# Altium integrated library con-pc.IntLib: 16 symbols
Pins are listed as number, name and electrical type; pins without a type are passive.

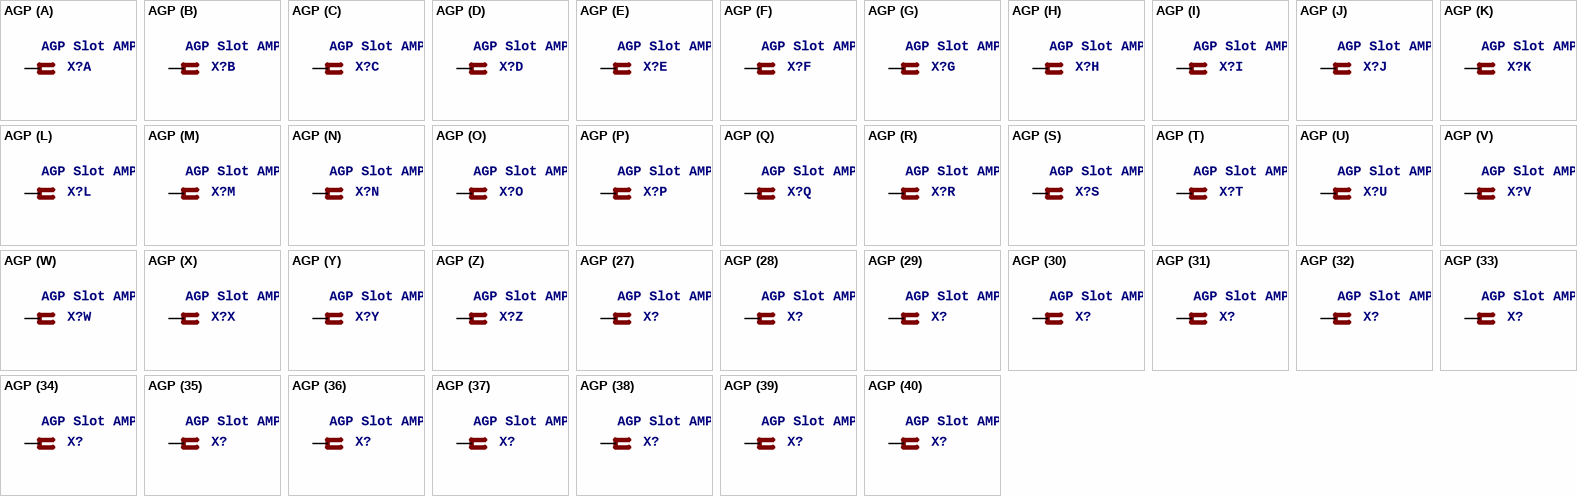
[diagram p0: symbol AGP]

## AGP
designator X?, comment AGP Slot AMP connctor 145263 >PCT-GF40<   124 Position 1mm, card edge connector Drawing No: C-145263 Source: http://ecommas.tycoelectronics.com .. ENG_CD_145263_H.pdf
footprint AGP
part A pins: 1 P
part B pins: 2 P
part C pins: 3 P
part D pins: 4 P
part E pins: 5 P
part F pins: 6 P
part G pins: 7 P
part H pins: 8 P
part I pins: 9 P
part J pins: 10 P
part K pins: 11 P
part L pins: 12 P
part M pins: 13 P
part N pins: 14 P
part O pins: 15 P
part P pins: 16 P
part Q pins: 17 P
part R pins: 18 P
part S pins: 19 P
part T pins: 20 P
part U pins: 21 P
part V pins: 22 P
part W pins: 23 P
part X pins: 24 P
part Y pins: 25 P
part Z pins: 26 P
part 27 pins: 27 P
part 28 pins: 28 P
part 29 pins: 29 P
part 30 pins: 30 P
part 31 pins: 31 P
part 32 pins: 32 P
part 33 pins: 33 P
part 34 pins: 34 P
part 35 pins: 35 P
part 36 pins: 36 P
part 37 pins: 37 P
part 38 pins: 38 P
part 39 pins: 39 P
part 40 pins: 40 P
part 41 pins: 41 P
part 42 pins: 42 P
part 43 pins: 43 P
part 44 pins: 44 P
part 45 pins: 45 P
part 46 pins: 46 P
part 47 pins: 47 P
part 48 pins: 48 P
part 49 pins: 49 P
part 50 pins: 50 P
part 51 pins: 51 P
part 52 pins: 52 P
part 53 pins: 53 P
part 54 pins: 54 P
part 55 pins: 55 P
part 56 pins: 56 P
part 57 pins: 57 P
part 58 pins: 58 P
part 59 pins: 59 P
part 60 pins: 60 P
part 61 pins: 61 P
part 62 pins: 62 P
part 63 pins: 63 P
part 64 pins: 64 P
part 65 pins: 65 P
part 66 pins: 66 P
part 67 pins: 67 P
part 68 pins: 68 P
part 69 pins: 69 P
part 70 pins: 70 P
part 71 pins: 71 P
part 72 pins: 72 P
part 73 pins: 73 P
part 74 pins: 74 P
part 75 pins: 75 P
part 76 pins: 76 P
part 77 pins: 77 P
part 78 pins: 78 P
part 79 pins: 79 P
part 80 pins: 80 P
part 81 pins: 81 P
part 82 pins: 82 P
part 83 pins: 83 P
part 84 pins: 84 P
part 85 pins: 85 P
part 86 pins: 86 P
part 87 pins: 87 P
part 88 pins: 88 P
part 89 pins: 89 P
part 90 pins: 90 P
part 91 pins: 91 P
part 92 pins: 92 P
part 93 pins: 93 P
part 94 pins: 94 P
part 95 pins: 95 P
part 96 pins: 96 P
part 97 pins: 97 P
part 98 pins: 98 P
part 99 pins: 99 P
part 100 pins: 100 P
part 101 pins: 101 P
part 102 pins: 102 P
part 103 pins: 103 P
part 104 pins: 104 P
part 105 pins: 105 P
part 106 pins: 106 P
part 107 pins: 107 P
part 108 pins: 108 P
part 109 pins: 109 P
part 110 pins: 110 P
part 111 pins: 111 P
part 112 pins: 112 P
part 113 pins: 113 P
part 114 pins: 114 P
part 115 pins: 115 P
part 116 pins: 116 P
part 117 pins: 117 P
part 118 pins: 118 P
part 119 pins: 119 P
part 120 pins: 120 P
part 121 pins: 121 P
part 122 pins: 122 P
part 123 pins: 123 P
part 124 pins: 124 P

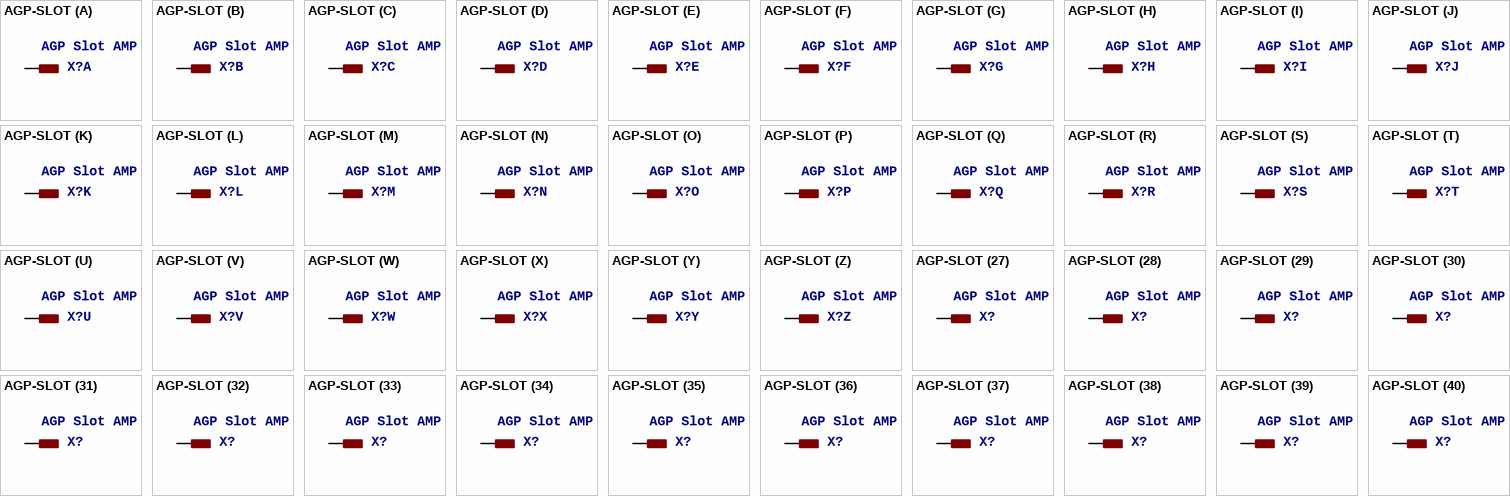
[diagram p1: symbol AGP-SLOT]

## AGP-SLOT
designator X?, comment AGP Slot AMP connctor 145263 >PCT-GF40<   124 Position 1mm, card edge connector Drawing No: C-145263 Source: http://ecommas.tycoelectronics.com .. ENG_CD_145263_H.pdf
footprint AGP-SLOT
part A pins: 1 P
part B pins: 2 P
part C pins: 3 P
part D pins: 4 P
part E pins: 5 P
part F pins: 6 P
part G pins: 7 P
part H pins: 8 P
part I pins: 9 P
part J pins: 10 P
part K pins: 11 P
part L pins: 12 P
part M pins: 13 P
part N pins: 14 P
part O pins: 15 P
part P pins: 16 P
part Q pins: 17 P
part R pins: 18 P
part S pins: 19 P
part T pins: 20 P
part U pins: 21 P
part V pins: 22 P
part W pins: 23 P
part X pins: 24 P
part Y pins: 25 P
part Z pins: 26 P
part 27 pins: 27 P
part 28 pins: 28 P
part 29 pins: 29 P
part 30 pins: 30 P
part 31 pins: 31 P
part 32 pins: 32 P
part 33 pins: 33 P
part 34 pins: 34 P
part 35 pins: 35 P
part 36 pins: 36 P
part 37 pins: 37 P
part 38 pins: 38 P
part 39 pins: 39 P
part 40 pins: 40 P
part 41 pins: 41 P
part 42 pins: 42 P
part 43 pins: 43 P
part 44 pins: 44 P
part 45 pins: 45 P
part 46 pins: 46 P
part 47 pins: 47 P
part 48 pins: 48 P
part 49 pins: 49 P
part 50 pins: 50 P
part 51 pins: 51 P
part 52 pins: 52 P
part 53 pins: 53 P
part 54 pins: 54 P
part 55 pins: 55 P
part 56 pins: 56 P
part 57 pins: 57 P
part 58 pins: 58 P
part 59 pins: 59 P
part 60 pins: 60 P
part 61 pins: 61 P
part 62 pins: 62 P
part 63 pins: 63 P
part 64 pins: 64 P
part 65 pins: 65 P
part 66 pins: 66 P
part 67 pins: 67 P
part 68 pins: 68 P
part 69 pins: 69 P
part 70 pins: 70 P
part 71 pins: 71 P
part 72 pins: 72 P
part 73 pins: 73 P
part 74 pins: 74 P
part 75 pins: 75 P
part 76 pins: 76 P
part 77 pins: 77 P
part 78 pins: 78 P
part 79 pins: 79 P
part 80 pins: 80 P
part 81 pins: 81 P
part 82 pins: 82 P
part 83 pins: 83 P
part 84 pins: 84 P
part 85 pins: 85 P
part 86 pins: 86 P
part 87 pins: 87 P
part 88 pins: 88 P
part 89 pins: 89 P
part 90 pins: 90 P
part 91 pins: 91 P
part 92 pins: 92 P
part 93 pins: 93 P
part 94 pins: 94 P
part 95 pins: 95 P
part 96 pins: 96 P
part 97 pins: 97 P
part 98 pins: 98 P
part 99 pins: 99 P
part 100 pins: 100 P
part 101 pins: 101 P
part 102 pins: 102 P
part 103 pins: 103 P
part 104 pins: 104 P
part 105 pins: 105 P
part 106 pins: 106 P
part 107 pins: 107 P
part 108 pins: 108 P
part 109 pins: 109 P
part 110 pins: 110 P
part 111 pins: 111 P
part 112 pins: 112 P
part 113 pins: 113 P
part 114 pins: 114 P
part 115 pins: 115 P
part 116 pins: 116 P
part 117 pins: 117 P
part 118 pins: 118 P
part 119 pins: 119 P
part 120 pins: 120 P
part 121 pins: 121 P
part 122 pins: 122 P
part 123 pins: 123 P
part 124 pins: 124 P

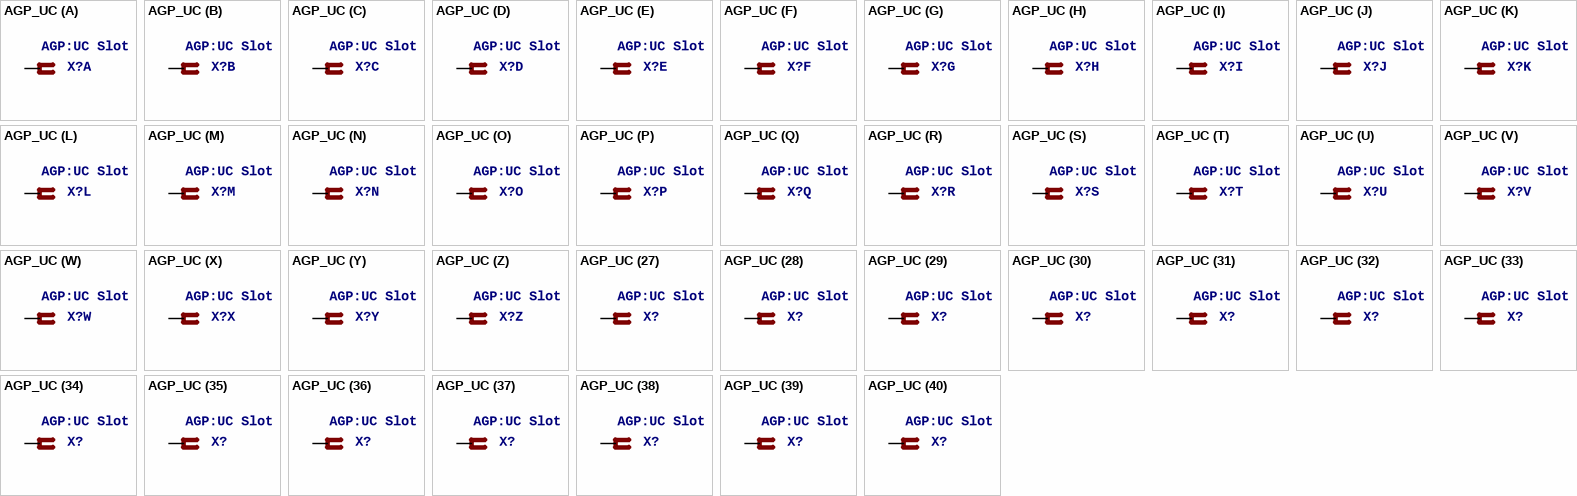
[diagram p2: symbol AGP_UC]

## AGP_UC
designator X?, comment AGP:UC Slot AMP connctor 145376 >PCT-GF40<    132 Position 1mm, card edge connector Drawing No: C-145263 Source: http://ecommas.tycoelectronics.com .. ENG_CD_145376_D.pdf
footprint AGP_UC
part A pins: 1 P
part B pins: 2 P
part C pins: 3 P
part D pins: 4 P
part E pins: 5 P
part F pins: 6 P
part G pins: 7 P
part H pins: 8 P
part I pins: 9 P
part J pins: 10 P
part K pins: 11 P
part L pins: 12 P
part M pins: 13 P
part N pins: 14 P
part O pins: 15 P
part P pins: 16 P
part Q pins: 17 P
part R pins: 18 P
part S pins: 19 P
part T pins: 20 P
part U pins: 21 P
part V pins: 22 P
part W pins: 23 P
part X pins: 24 P
part Y pins: 25 P
part Z pins: 26 P
part 27 pins: 27 P
part 28 pins: 28 P
part 29 pins: 29 P
part 30 pins: 30 P
part 31 pins: 31 P
part 32 pins: 32 P
part 33 pins: 33 P
part 34 pins: 34 P
part 35 pins: 35 P
part 36 pins: 36 P
part 37 pins: 37 P
part 38 pins: 38 P
part 39 pins: 39 P
part 40 pins: 40 P
part 41 pins: 41 P
part 42 pins: 42 P
part 43 pins: 43 P
part 44 pins: 44 P
part 45 pins: 45 P
part 46 pins: 46 P
part 47 pins: 47 P
part 48 pins: 48 P
part 49 pins: 49 P
part 50 pins: 50 P
part 51 pins: 51 P
part 52 pins: 52 P
part 53 pins: 53 P
part 54 pins: 54 P
part 55 pins: 55 P
part 56 pins: 56 P
part 57 pins: 57 P
part 58 pins: 58 P
part 59 pins: 59 P
part 60 pins: 60 P
part 61 pins: 61 P
part 62 pins: 62 P
part 63 pins: 63 P
part 64 pins: 64 P
part 65 pins: 65 P
part 66 pins: 66 P
part 67 pins: 67 P
part 68 pins: 68 P
part 69 pins: 69 P
part 70 pins: 70 P
part 71 pins: 71 P
part 72 pins: 72 P
part 73 pins: 73 P
part 74 pins: 74 P
part 75 pins: 75 P
part 76 pins: 76 P
part 77 pins: 77 P
part 78 pins: 78 P
part 79 pins: 79 P
part 80 pins: 80 P
part 81 pins: 81 P
part 82 pins: 82 P
part 83 pins: 83 P
part 84 pins: 84 P
part 85 pins: 85 P
part 86 pins: 86 P
part 87 pins: 87 P
part 88 pins: 88 P
part 89 pins: 89 P
part 90 pins: 90 P
part 91 pins: 91 P
part 92 pins: 92 P
part 93 pins: 93 P
part 94 pins: 94 P
part 95 pins: 95 P
part 96 pins: 96 P
part 97 pins: 97 P
part 98 pins: 98 P
part 99 pins: 99 P
part 100 pins: 100 P
part 101 pins: 101 P
part 102 pins: 102 P
part 103 pins: 103 P
part 104 pins: 104 P
part 105 pins: 105 P
part 106 pins: 106 P
part 107 pins: 107 P
part 108 pins: 108 P
part 109 pins: 109 P
part 110 pins: 110 P
part 111 pins: 111 P
part 112 pins: 112 P
part 113 pins: 113 P
part 114 pins: 114 P
part 115 pins: 115 P
part 116 pins: 116 P
part 117 pins: 117 P
part 118 pins: 118 P
part 119 pins: 119 P
part 120 pins: 120 P
part 121 pins: 121 P
part 122 pins: 122 P
part 123 pins: 123 P
part 124 pins: 124 P
part 125 pins: 125 P
part 126 pins: 126 P
part 127 pins: 127 P
part 128 pins: 128 P
part 129 pins: 129 P
part 130 pins: 130 P
part 131 pins: 131 P
part 132 pins: 132 P

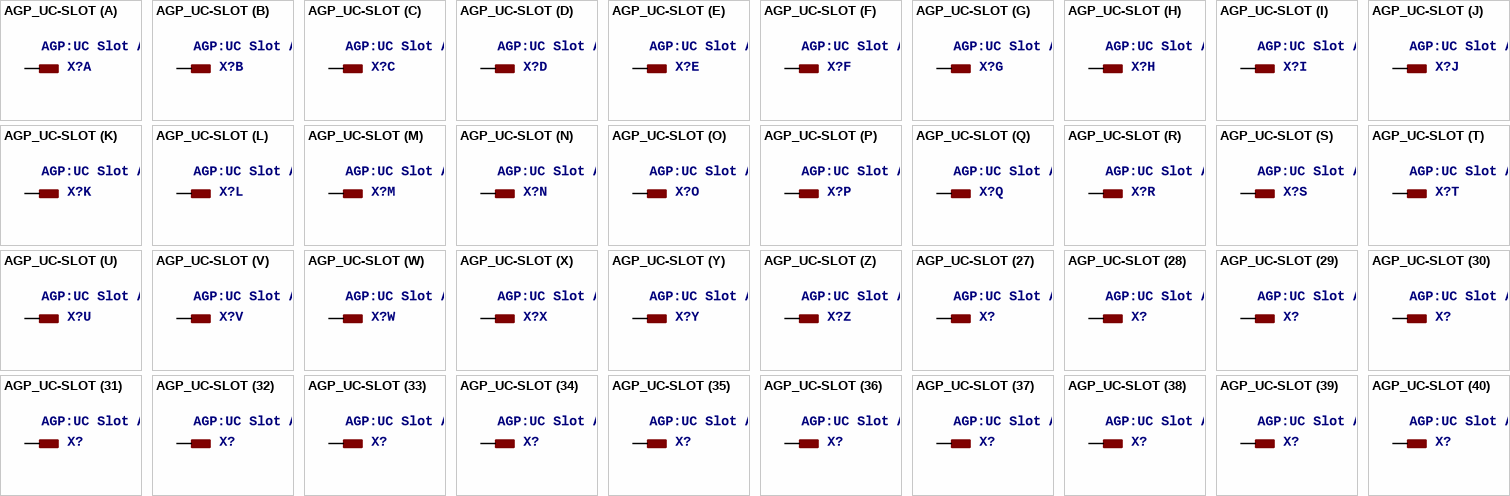
[diagram p3: symbol AGP_UC-SLOT]

## AGP_UC-SLOT
designator X?, comment AGP:UC Slot AMP connctor 145376 >PCT-GF40<    132 Position 1mm, card edge connector Drawing No: C-145263 Source: http://ecommas.tycoelectronics.com .. ENG_CD_145376_D.pdf
footprint AGP_UC-SLOT
part A pins: 1 P
part B pins: 2 P
part C pins: 3 P
part D pins: 4 P
part E pins: 5 P
part F pins: 6 P
part G pins: 7 P
part H pins: 8 P
part I pins: 9 P
part J pins: 10 P
part K pins: 11 P
part L pins: 12 P
part M pins: 13 P
part N pins: 14 P
part O pins: 15 P
part P pins: 16 P
part Q pins: 17 P
part R pins: 18 P
part S pins: 19 P
part T pins: 20 P
part U pins: 21 P
part V pins: 22 P
part W pins: 23 P
part X pins: 24 P
part Y pins: 25 P
part Z pins: 26 P
part 27 pins: 27 P
part 28 pins: 28 P
part 29 pins: 29 P
part 30 pins: 30 P
part 31 pins: 31 P
part 32 pins: 32 P
part 33 pins: 33 P
part 34 pins: 34 P
part 35 pins: 35 P
part 36 pins: 36 P
part 37 pins: 37 P
part 38 pins: 38 P
part 39 pins: 39 P
part 40 pins: 40 P
part 41 pins: 41 P
part 42 pins: 42 P
part 43 pins: 43 P
part 44 pins: 44 P
part 45 pins: 45 P
part 46 pins: 46 P
part 47 pins: 47 P
part 48 pins: 48 P
part 49 pins: 49 P
part 50 pins: 50 P
part 51 pins: 51 P
part 52 pins: 52 P
part 53 pins: 53 P
part 54 pins: 54 P
part 55 pins: 55 P
part 56 pins: 56 P
part 57 pins: 57 P
part 58 pins: 58 P
part 59 pins: 59 P
part 60 pins: 60 P
part 61 pins: 61 P
part 62 pins: 62 P
part 63 pins: 63 P
part 64 pins: 64 P
part 65 pins: 65 P
part 66 pins: 66 P
part 67 pins: 67 P
part 68 pins: 68 P
part 69 pins: 69 P
part 70 pins: 70 P
part 71 pins: 71 P
part 72 pins: 72 P
part 73 pins: 73 P
part 74 pins: 74 P
part 75 pins: 75 P
part 76 pins: 76 P
part 77 pins: 77 P
part 78 pins: 78 P
part 79 pins: 79 P
part 80 pins: 80 P
part 81 pins: 81 P
part 82 pins: 82 P
part 83 pins: 83 P
part 84 pins: 84 P
part 85 pins: 85 P
part 86 pins: 86 P
part 87 pins: 87 P
part 88 pins: 88 P
part 89 pins: 89 P
part 90 pins: 90 P
part 91 pins: 91 P
part 92 pins: 92 P
part 93 pins: 93 P
part 94 pins: 94 P
part 95 pins: 95 P
part 96 pins: 96 P
part 97 pins: 97 P
part 98 pins: 98 P
part 99 pins: 99 P
part 100 pins: 100 P
part 101 pins: 101 P
part 102 pins: 102 P
part 103 pins: 103 P
part 104 pins: 104 P
part 105 pins: 105 P
part 106 pins: 106 P
part 107 pins: 107 P
part 108 pins: 108 P
part 109 pins: 109 P
part 110 pins: 110 P
part 111 pins: 111 P
part 112 pins: 112 P
part 113 pins: 113 P
part 114 pins: 114 P
part 115 pins: 115 P
part 116 pins: 116 P
part 117 pins: 117 P
part 118 pins: 118 P
part 119 pins: 119 P
part 120 pins: 120 P
part 121 pins: 121 P
part 122 pins: 122 P
part 123 pins: 123 P
part 124 pins: 124 P
part 125 pins: 125 P
part 126 pins: 126 P
part 127 pins: 127 P
part 128 pins: 128 P
part 129 pins: 129 P
part 130 pins: 130 P
part 131 pins: 131 P
part 132 pins: 132 P

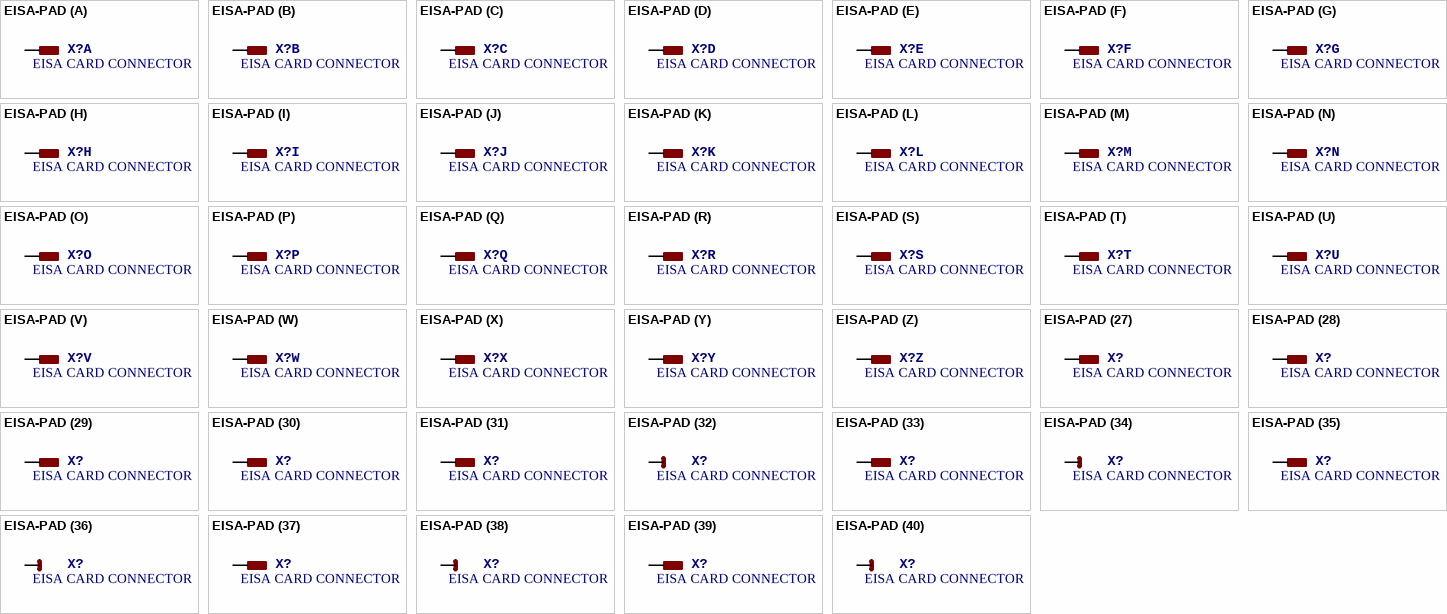
[diagram p4: symbol EISA-PAD]

## EISA-PAD
designator X?, comment EISA CARD CONNECTOR
footprint EISA-BRD
part A pins: A1 P
part B pins: A2 P
part C pins: A3 P
part D pins: A4 P
part E pins: A5 P
part F pins: A6 P
part G pins: A7 P
part H pins: A8 P
part I pins: A9 P
part J pins: A10 P
part K pins: A11 P
part L pins: A12 P
part M pins: A13 P
part N pins: A14 P
part O pins: A15 P
part P pins: A16 P
part Q pins: A17 P
part R pins: A18 P
part S pins: A19 P
part T pins: A20 P
part U pins: A21 P
part V pins: A22 P
part W pins: A23 P
part X pins: A24 P
part Y pins: A25 P
part Z pins: A26 P
part 27 pins: A27 P
part 28 pins: A28 P
part 29 pins: A29 P
part 30 pins: A30 P
part 31 pins: A31 P
part 32 pins: B1 GND (power)
part 33 pins: B2 P
part 34 pins: B3 +5V (power)
part 35 pins: B4 P
part 36 pins: B5 -5V (power)
part 37 pins: B6 P
part 38 pins: B7 -12V (power)
part 39 pins: B8 P
part 40 pins: B9 +12V (power)
part 41 pins: B10 GND (power)
part 42 pins: B11 P
part 43 pins: B12 P
part 44 pins: B13 P
part 45 pins: B14 P
part 46 pins: B15 P
part 47 pins: B16 P
part 48 pins: B17 P
part 49 pins: B18 P
part 50 pins: B19 P
part 51 pins: B20 P
part 52 pins: B21 P
part 53 pins: B22 P
part 54 pins: B23 P
part 55 pins: B24 P
part 56 pins: B25 P
part 57 pins: B26 P
part 58 pins: B27 P
part 59 pins: B28 P
part 60 pins: B29 +5V (power)
part 61 pins: B30 P
part 62 pins: B31 GND (power)
part 63 pins: E1 P
part 64 pins: E2 P
part 65 pins: E3 P
part 66 pins: E4 P
part 67 pins: E5 GND (power)
part 68 pins: E7 P
part 69 pins: E8 P
part 70 pins: E9 P
part 71 pins: E10 P
part 72 pins: E11 GND (power)
part 73 pins: E12 RSV
part 74 pins: E13 RSV
part 75 pins: E14 RSV
part 76 pins: E15 GND (power)
part 77 pins: E17 P
part 78 pins: E18 P
part 79 pins: E19 GND (power)
part 80 pins: E20 P
part 81 pins: E21 P
part 82 pins: E22 P
part 83 pins: E23 P
part 84 pins: E24 GND (power)
part 85 pins: E26 P
part 86 pins: E27 P
part 87 pins: E28 P
part 88 pins: E29 P
part 89 pins: E30 GND (power)
part 90 pins: E31 P
part 91 pins: F1 GND (power)
part 92 pins: F2 +5V (power)
part 93 pins: F3 +5V (power)
part 94 pins: F4 RSV
part 95 pins: F5 RSV
part 96 pins: F7 RSV
part 97 pins: F8 RSV
part 98 pins: F9 +12V (power)
part 99 pins: F10 P
part 100 pins: F11 P
part 101 pins: F12 RSV
part 102 pins: F13 GND (power)
part 103 pins: F14 RSV
part 104 pins: F15 P
part 105 pins: F17 P
part 106 pins: F18 P
part 107 pins: F19 GND (power)
part 108 pins: F20 +5V (power)
part 109 pins: F21 P
part 110 pins: F22 GND (power)
part 111 pins: F23 P
part 112 pins: F24 P
part 113 pins: F26 P
part 114 pins: F27 P
part 115 pins: F28 +5V (power)
part 116 pins: F29 +5V (power)
part 117 pins: F30 GND (power)
part 118 pins: F31 P
part 119 pins: C1 P
part 120 pins: C2 P
part 121 pins: C3 P
part 122 pins: C4 P
part 123 pins: C5 P
part 124 pins: C6 P
part 125 pins: C7 P
part 126 pins: C8 P
part 127 pins: C9 P
part 128 pins: C10 P
part 129 pins: C11 P
part 130 pins: C12 P
part 131 pins: C13 P
part 132 pins: C14 P
part 133 pins: C15 P
part 134 pins: C16 P
part 135 pins: C17 P
part 136 pins: C18 P
part 137 pins: D1 P
part 138 pins: D2 P
part 139 pins: D3 P
part 140 pins: D4 P
part 141 pins: D5 P
part 142 pins: D6 P
part 143 pins: D7 P
part 144 pins: D8 P
part 145 pins: D9 P
part 146 pins: D10 P
part 147 pins: D11 P
part 148 pins: D12 P
part 149 pins: D13 P
part 150 pins: D14 P
part 151 pins: D15 P
part 152 pins: D16 +5V (power)
part 153 pins: D17 P
part 154 pins: D18 GND (power)
part 155 pins: G1 P
part 156 pins: G2 GND (power)
part 157 pins: G3 P
part 158 pins: G4 P
part 159 pins: G5 GND (power)
part 160 pins: G7 P
part 161 pins: G8 P
part 162 pins: G9 P
part 163 pins: G10 P
part 164 pins: G11 GND (power)
part 165 pins: G12 P
part 166 pins: G13 P
part 167 pins: G14 P
part 168 pins: G16 GND (power)
part 169 pins: G17 P
part 170 pins: G18 P
part 171 pins: G19 P
part 172 pins: H1 P
part 173 pins: H2 P
part 174 pins: H3 P
part 175 pins: H4 +5V (power)
part 176 pins: H5 P
part 177 pins: H7 P
part 178 pins: H8 P
part 179 pins: H9 GND (power)
part 180 pins: H10 P
part 181 pins: H11 P
part 182 pins: H12 P
part 183 pins: H13 GND (power)
part 184 pins: H14 P
part 185 pins: H16 P
part 186 pins: H17 +5V (power)
part 187 pins: H18 +5V (power)
part 188 pins: H19 P

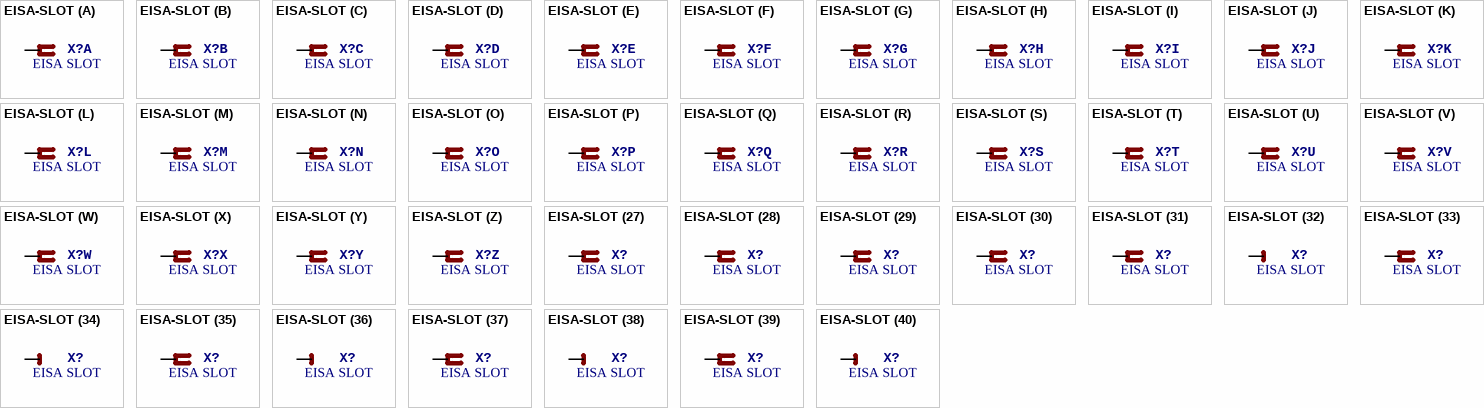
[diagram p5: symbol EISA-SLOT]

## EISA-SLOT
designator X?, comment EISA SLOT
footprint EISA-188
part A pins: A1 P
part B pins: A2 P
part C pins: A3 P
part D pins: A4 P
part E pins: A5 P
part F pins: A6 P
part G pins: A7 P
part H pins: A8 P
part I pins: A9 P
part J pins: A10 P
part K pins: A11 P
part L pins: A12 P
part M pins: A13 P
part N pins: A14 P
part O pins: A15 P
part P pins: A16 P
part Q pins: A17 P
part R pins: A18 P
part S pins: A19 P
part T pins: A20 P
part U pins: A21 P
part V pins: A22 P
part W pins: A23 P
part X pins: A24 P
part Y pins: A25 P
part Z pins: A26 P
part 27 pins: A27 P
part 28 pins: A28 P
part 29 pins: A29 P
part 30 pins: A30 P
part 31 pins: A31 P
part 32 pins: B1 GND (power)
part 33 pins: B2 P
part 34 pins: B3 +5V (power)
part 35 pins: B4 P
part 36 pins: B5 -5V (power)
part 37 pins: B6 P
part 38 pins: B7 -12V (power)
part 39 pins: B8 P
part 40 pins: B9 +12V (power)
part 41 pins: B10 GND (power)
part 42 pins: B11 P
part 43 pins: B12 P
part 44 pins: B13 P
part 45 pins: B14 P
part 46 pins: B15 P
part 47 pins: B16 P
part 48 pins: B17 P
part 49 pins: B18 P
part 50 pins: B19 P
part 51 pins: B20 P
part 52 pins: B21 P
part 53 pins: B22 P
part 54 pins: B23 P
part 55 pins: B24 P
part 56 pins: B25 P
part 57 pins: B26 P
part 58 pins: B27 P
part 59 pins: B28 P
part 60 pins: B29 +5V (power)
part 61 pins: B30 P
part 62 pins: B31 GND (power)
part 63 pins: E1 P
part 64 pins: E2 P
part 65 pins: E3 P
part 66 pins: E4 P
part 67 pins: E5 GND (power)
part 68 pins: E7 P
part 69 pins: E8 P
part 70 pins: E9 P
part 71 pins: E10 P
part 72 pins: E11 GND (power)
part 73 pins: E12 RSV
part 74 pins: E13 RSV
part 75 pins: E14 RSV
part 76 pins: E15 GND (power)
part 77 pins: E17 P
part 78 pins: E18 P
part 79 pins: E19 GND (power)
part 80 pins: E20 P
part 81 pins: E21 P
part 82 pins: E22 P
part 83 pins: E23 P
part 84 pins: E24 GND (power)
part 85 pins: E26 P
part 86 pins: E27 P
part 87 pins: E28 P
part 88 pins: E29 P
part 89 pins: E30 GND (power)
part 90 pins: E31 P
part 91 pins: F1 GND (power)
part 92 pins: F2 +5V (power)
part 93 pins: F3 +5V (power)
part 94 pins: F4 RSV
part 95 pins: F5 RSV
part 96 pins: F7 RSV
part 97 pins: F8 RSV
part 98 pins: F9 +12V (power)
part 99 pins: F10 P
part 100 pins: F11 P
part 101 pins: F12 RSV
part 102 pins: F13 GND (power)
part 103 pins: F14 RSV
part 104 pins: F15 P
part 105 pins: F17 P
part 106 pins: F18 P
part 107 pins: F19 GND (power)
part 108 pins: F20 +5V (power)
part 109 pins: F21 P
part 110 pins: F22 GND (power)
part 111 pins: F23 P
part 112 pins: F24 P
part 113 pins: F26 P
part 114 pins: F27 P
part 115 pins: F28 +5V (power)
part 116 pins: F29 +5V (power)
part 117 pins: F30 GND (power)
part 118 pins: F31 P
part 119 pins: C1 P
part 120 pins: C2 P
part 121 pins: C3 P
part 122 pins: C4 P
part 123 pins: C5 P
part 124 pins: C6 P
part 125 pins: C7 P
part 126 pins: C8 P
part 127 pins: C9 P
part 128 pins: C10 P
part 129 pins: C11 P
part 130 pins: C12 P
part 131 pins: C13 P
part 132 pins: C14 P
part 133 pins: C15 P
part 134 pins: C16 P
part 135 pins: C17 P
part 136 pins: C18 P
part 137 pins: D1 P
part 138 pins: D2 P
part 139 pins: D3 P
part 140 pins: D4 P
part 141 pins: D5 P
part 142 pins: D6 P
part 143 pins: D7 P
part 144 pins: D8 P
part 145 pins: D9 P
part 146 pins: D10 P
part 147 pins: D11 P
part 148 pins: D12 P
part 149 pins: D13 P
part 150 pins: D14 P
part 151 pins: D15 P
part 152 pins: D16 +5V (power)
part 153 pins: D17 P
part 154 pins: D18 GND (power)
part 155 pins: G1 P
part 156 pins: G2 GND (power)
part 157 pins: G3 P
part 158 pins: G4 P
part 159 pins: G5 GND (power)
part 160 pins: G7 P
part 161 pins: G8 P
part 162 pins: G9 P
part 163 pins: G10 P
part 164 pins: G11 GND (power)
part 165 pins: G12 P
part 166 pins: G13 P
part 167 pins: G14 P
part 168 pins: G16 GND (power)
part 169 pins: G17 P
part 170 pins: G18 P
part 171 pins: G19 P
part 172 pins: H1 P
part 173 pins: H2 P
part 174 pins: H3 P
part 175 pins: H4 +5V (power)
part 176 pins: H5 P
part 177 pins: H7 P
part 178 pins: H8 P
part 179 pins: H9 GND (power)
part 180 pins: H10 P
part 181 pins: H11 P
part 182 pins: H12 P
part 183 pins: H13 GND (power)
part 184 pins: H14 P
part 185 pins: H16 P
part 186 pins: H17 +5V (power)
part 187 pins: H18 +5V (power)
part 188 pins: H19 P

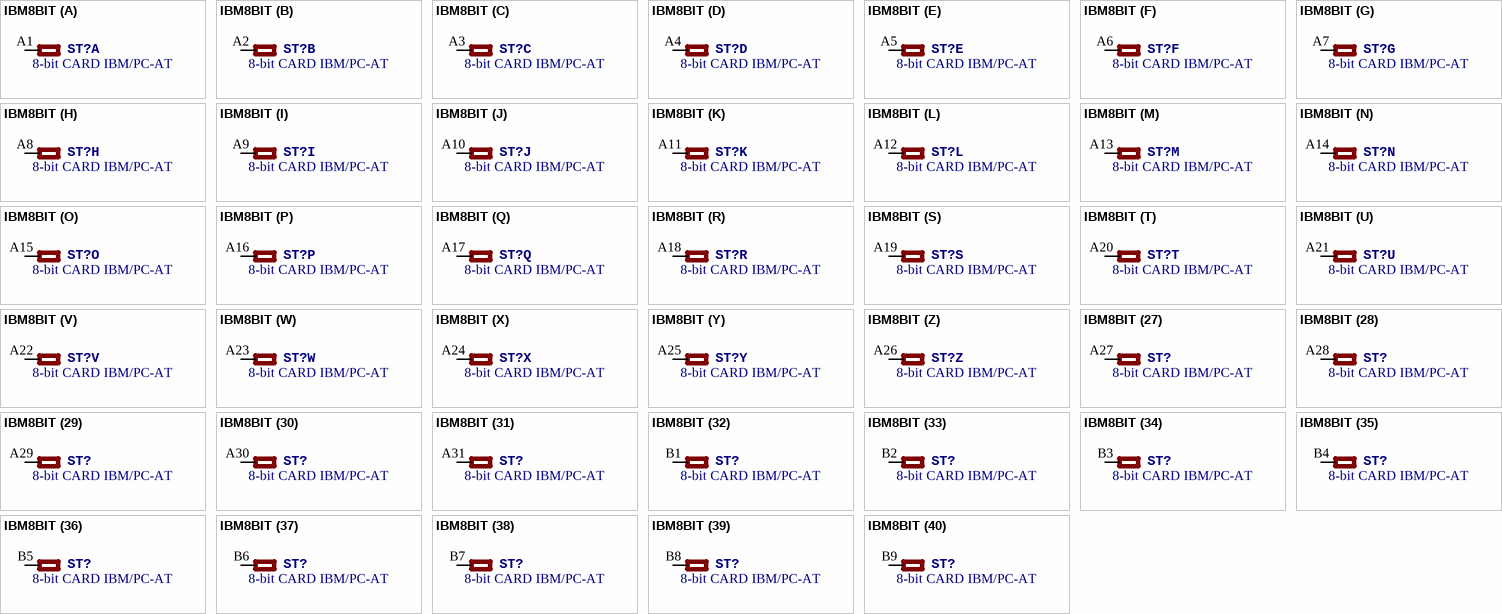
[diagram p6: symbol IBM8BIT]

## IBM8BIT
designator ST?, comment 8-bit CARD IBM/PC-AT
footprint IBM8BIT
part A pins: A1 P
part B pins: A2 P
part C pins: A3 P
part D pins: A4 P
part E pins: A5 P
part F pins: A6 P
part G pins: A7 P
part H pins: A8 P
part I pins: A9 P
part J pins: A10 P
part K pins: A11 P
part L pins: A12 P
part M pins: A13 P
part N pins: A14 P
part O pins: A15 P
part P pins: A16 P
part Q pins: A17 P
part R pins: A18 P
part S pins: A19 P
part T pins: A20 P
part U pins: A21 P
part V pins: A22 P
part W pins: A23 P
part X pins: A24 P
part Y pins: A25 P
part Z pins: A26 P
part 27 pins: A27 P
part 28 pins: A28 P
part 29 pins: A29 P
part 30 pins: A30 P
part 31 pins: A31 P
part 32 pins: B1 P
part 33 pins: B2 P
part 34 pins: B3 P
part 35 pins: B4 P
part 36 pins: B5 P
part 37 pins: B6 P
part 38 pins: B7 P
part 39 pins: B8 P
part 40 pins: B9 P
part 41 pins: B10 P
part 42 pins: B11 P
part 43 pins: B12 P
part 44 pins: B13 P
part 45 pins: B14 P
part 46 pins: B15 P
part 47 pins: B16 P
part 48 pins: B17 P
part 49 pins: B18 P
part 50 pins: B19 P
part 51 pins: B20 P
part 52 pins: B21 P
part 53 pins: B22 P
part 54 pins: B23 P
part 55 pins: B24 P
part 56 pins: B25 P
part 57 pins: B26 P
part 58 pins: B27 P
part 59 pins: B28 P
part 60 pins: B29 P
part 61 pins: B30 P
part 62 pins: B31 P

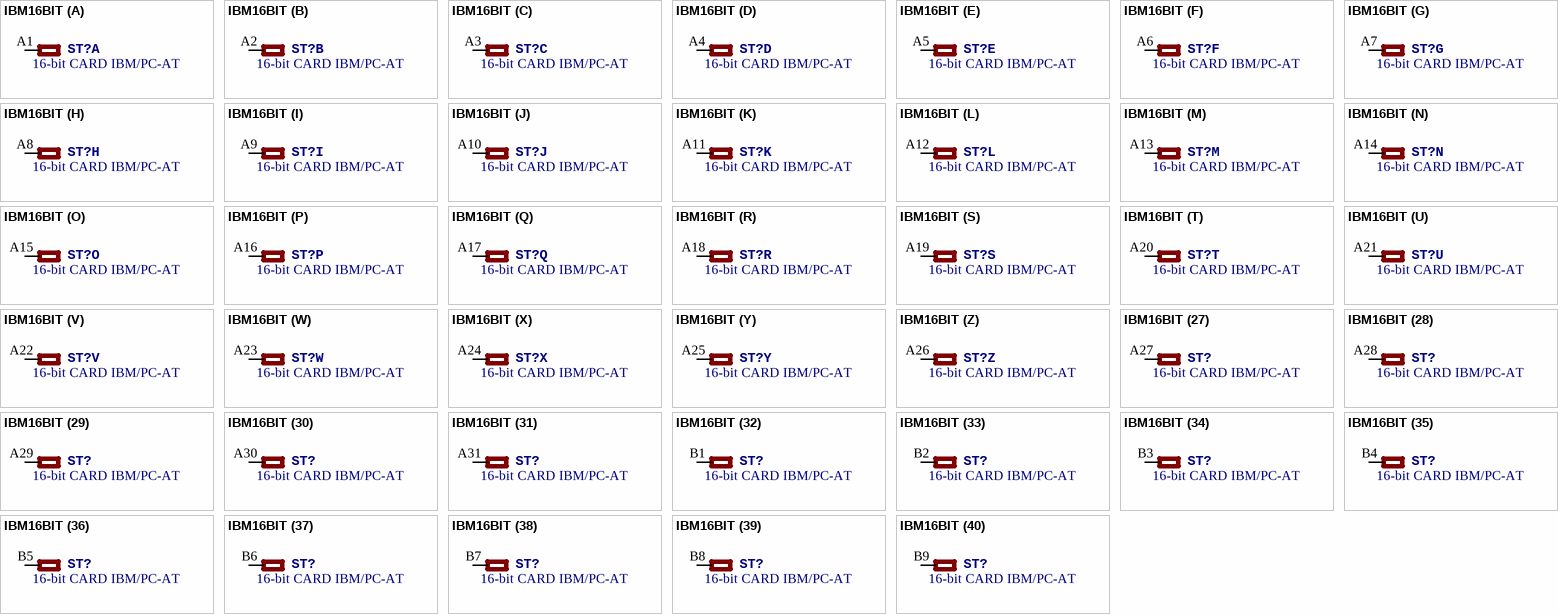
[diagram p7: symbol IBM16BIT]

## IBM16BIT
designator ST?, comment 16-bit CARD IBM/PC-AT
footprint IBM16BIT
part A pins: A1 P
part B pins: A2 P
part C pins: A3 P
part D pins: A4 P
part E pins: A5 P
part F pins: A6 P
part G pins: A7 P
part H pins: A8 P
part I pins: A9 P
part J pins: A10 P
part K pins: A11 P
part L pins: A12 P
part M pins: A13 P
part N pins: A14 P
part O pins: A15 P
part P pins: A16 P
part Q pins: A17 P
part R pins: A18 P
part S pins: A19 P
part T pins: A20 P
part U pins: A21 P
part V pins: A22 P
part W pins: A23 P
part X pins: A24 P
part Y pins: A25 P
part Z pins: A26 P
part 27 pins: A27 P
part 28 pins: A28 P
part 29 pins: A29 P
part 30 pins: A30 P
part 31 pins: A31 P
part 32 pins: B1 P
part 33 pins: B2 P
part 34 pins: B3 P
part 35 pins: B4 P
part 36 pins: B5 P
part 37 pins: B6 P
part 38 pins: B7 P
part 39 pins: B8 P
part 40 pins: B9 P
part 41 pins: B10 P
part 42 pins: B11 P
part 43 pins: B12 P
part 44 pins: B13 P
part 45 pins: B14 P
part 46 pins: B15 P
part 47 pins: B16 P
part 48 pins: B17 P
part 49 pins: B18 P
part 50 pins: B19 P
part 51 pins: B20 P
part 52 pins: B21 P
part 53 pins: B22 P
part 54 pins: B23 P
part 55 pins: B24 P
part 56 pins: B25 P
part 57 pins: B26 P
part 58 pins: B27 P
part 59 pins: B28 P
part 60 pins: B29 P
part 61 pins: B30 P
part 62 pins: B31 P
part 63 pins: C1 P
part 64 pins: C2 P
part 65 pins: C3 P
part 66 pins: C4 P
part 67 pins: C5 P
part 68 pins: C6 P
part 69 pins: C7 P
part 70 pins: C8 P
part 71 pins: C9 P
part 72 pins: C10 P
part 73 pins: C11 P
part 74 pins: C12 P
part 75 pins: C13 P
part 76 pins: C14 P
part 77 pins: C15 P
part 78 pins: C16 P
part 79 pins: C17 P
part 80 pins: C18 P
part 81 pins: D1 P
part 82 pins: D2 P
part 83 pins: D3 P
part 84 pins: D4 P
part 85 pins: D5 P
part 86 pins: D6 P
part 87 pins: D7 P
part 88 pins: D8 P
part 89 pins: D9 P
part 90 pins: D10 P
part 91 pins: D11 P
part 92 pins: D12 P
part 93 pins: D13 P
part 94 pins: D14 P
part 95 pins: D15 P
part 96 pins: D16 P
part 97 pins: D17 P
part 98 pins: D18 P

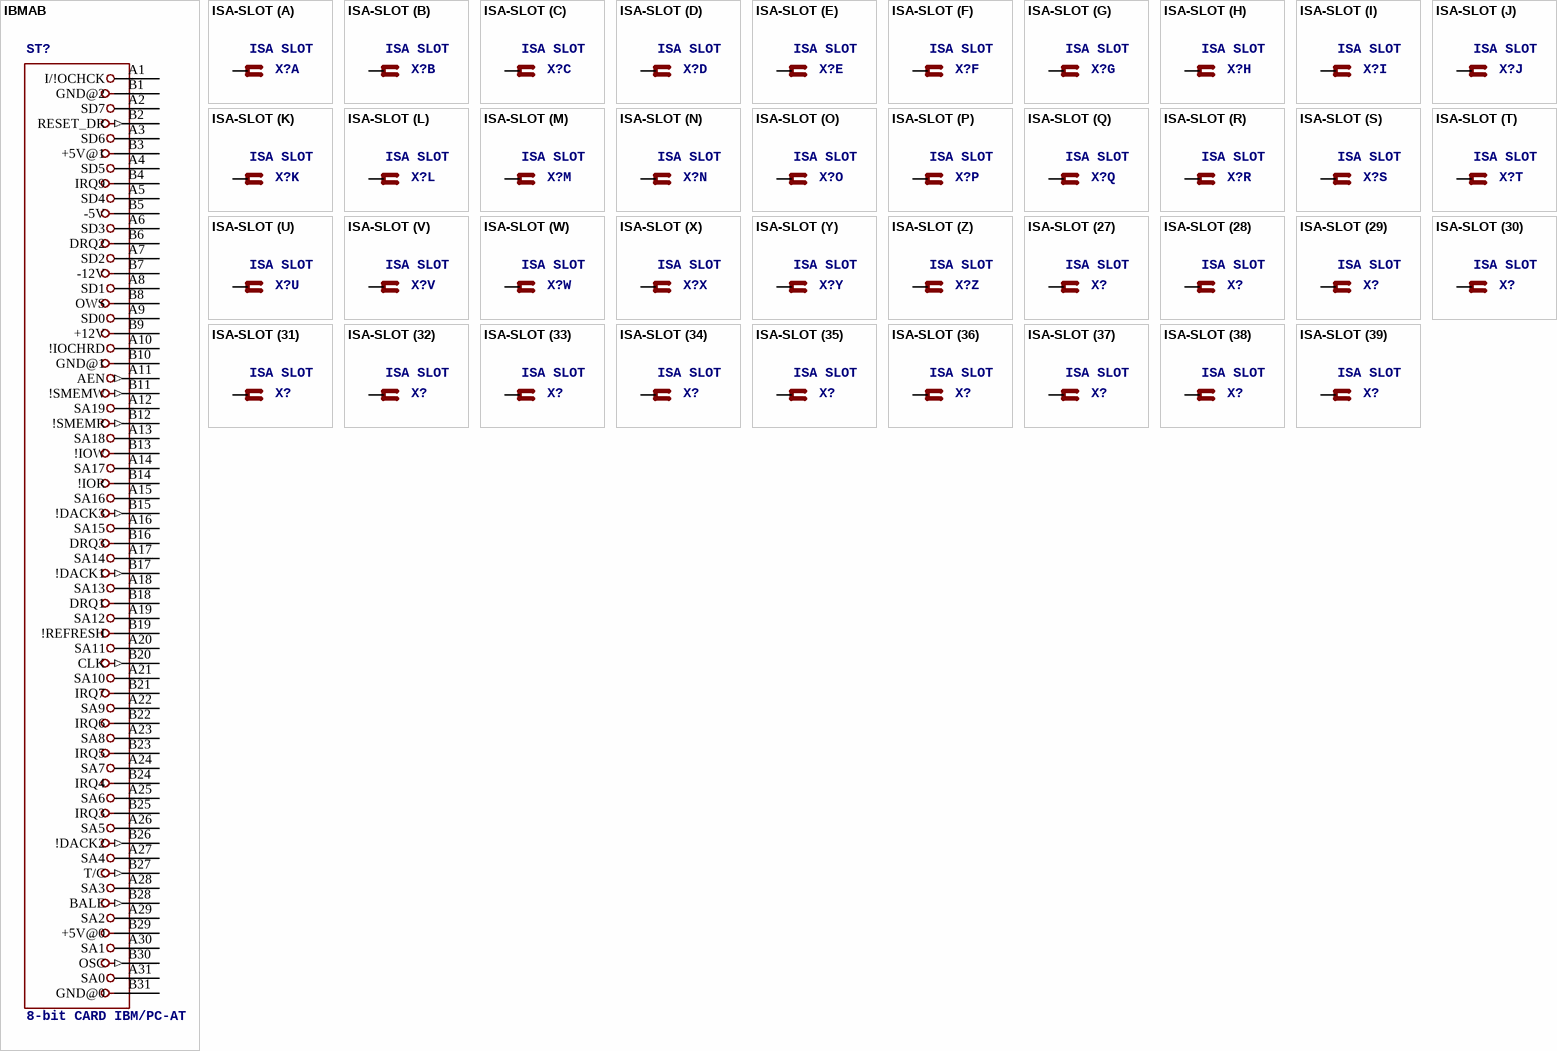
[diagram p8: symbols IBMAB to ISA-SLOT]

## IBMAB
designator ST?, comment 8-bit CARD IBM/PC-AT
footprint IBM_8AB
pins: A1 I/!OCHCK, A2 SD7, A3 SD6, A4 SD5, A5 SD4, A6 SD3, A7 SD2, A8 SD1, A9 SD0, A10 !IOCHRD, A11 AEN (out), A12 SA19, A13 SA18, A14 SA17, A15 SA16, A16 SA15, A17 SA14, A18 SA13, A19 SA12, A20 SA11, A21 SA10, A22 SA9, A23 SA8, A24 SA7, A25 SA6, A26 SA5, A27 SA4, A28 SA3, A29 SA2, A30 SA1, A31 SA0, B1 GND@2 (power), B2 RESET_DR (out), B3 +5V@1 (power), B4 IRQ9, B5 -5V (power), B6 DRQ2, B7 -12V (power), B8 OWS, B9 +12V (power), B10 GND@1 (power), B11 !SMEMW (out), B12 !SMEMR (out), B13 !IOW, B14 !IOR, B15 !DACK3 (out), B16 DRQ3, B17 !DACK1 (out), B18 DRQ1, B19 !REFRESH, B20 CLK (out), B21 IRQ7, B22 IRQ6, B23 IRQ5, B24 IRQ4, B25 IRQ3, B26 !DACK2 (out), B27 T/C (out), B28 BALE (out), B29 +5V@0 (power), B30 OSC (out), B31 GND@0 (power)

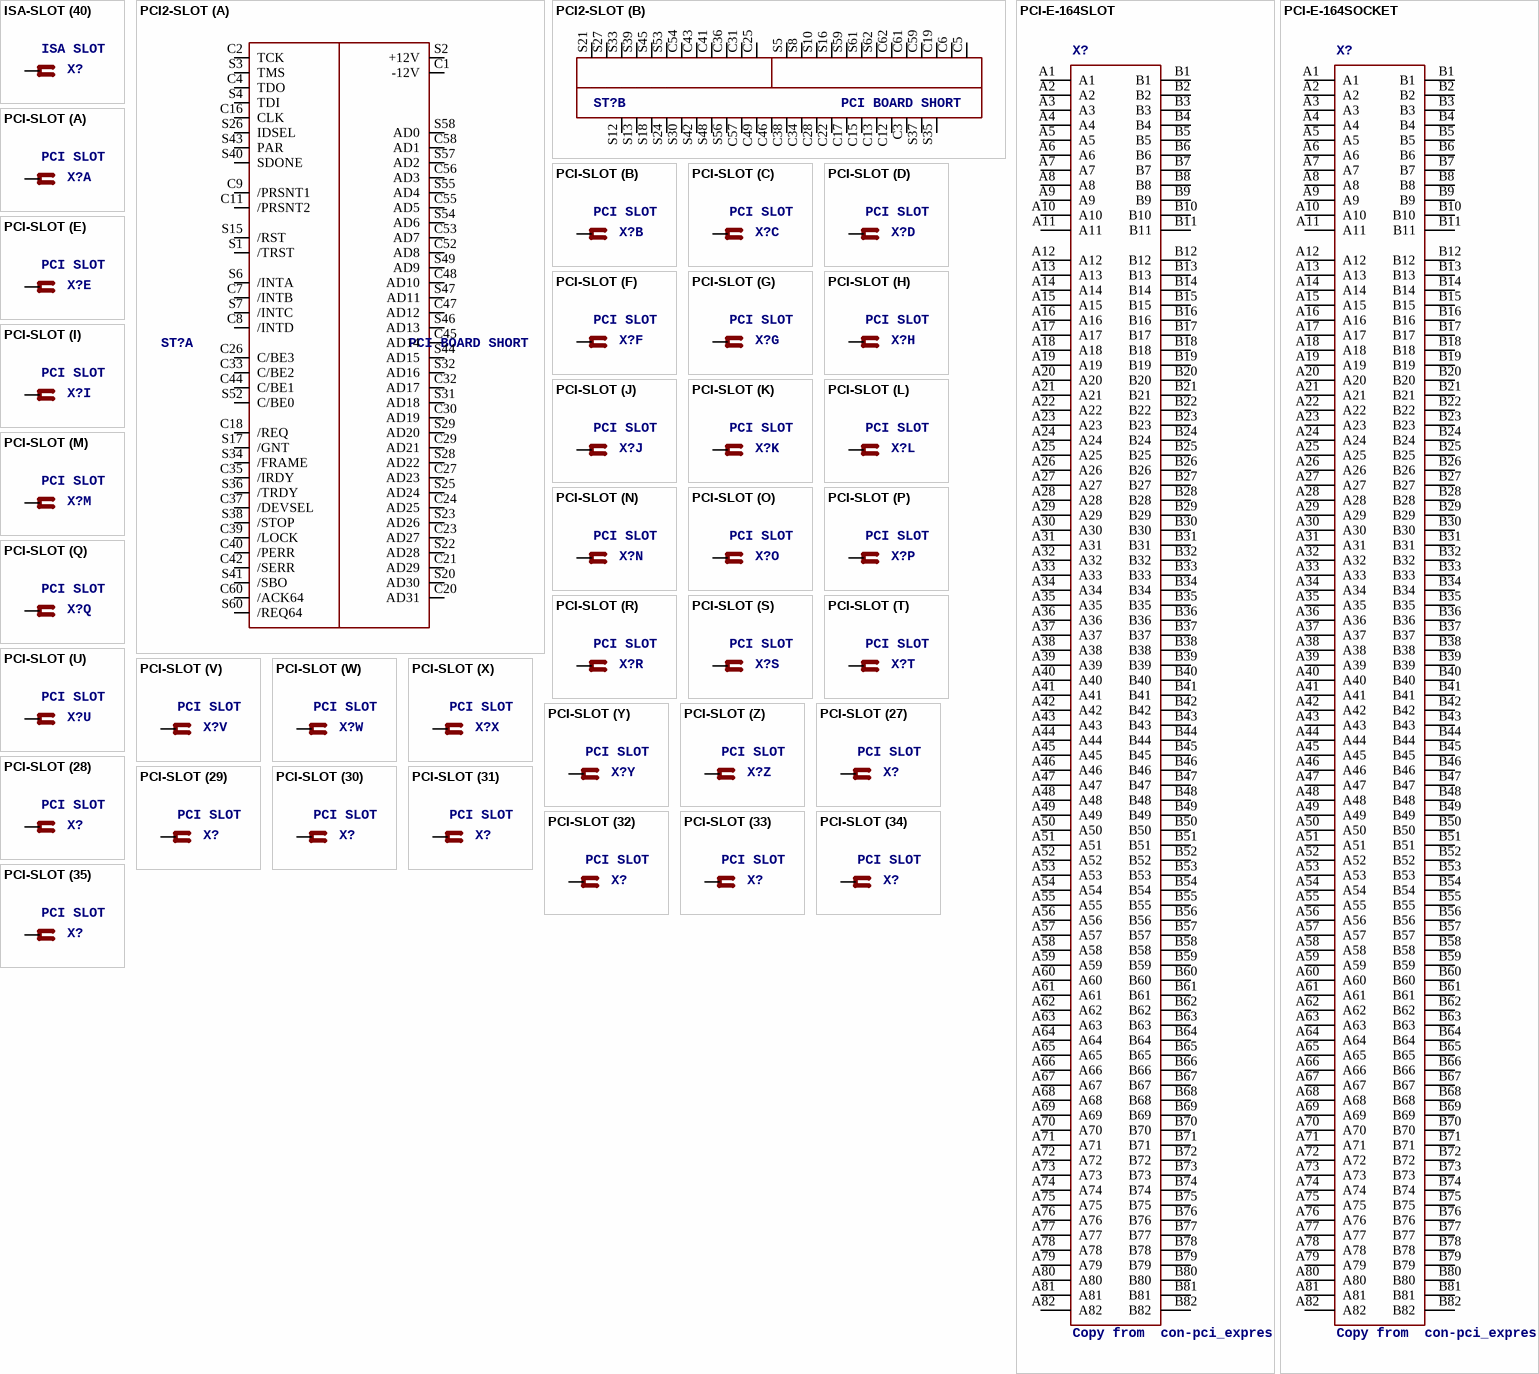
[diagram p9: symbols ISA-SLOT to PCI-SLOT]

## ISA-SLOT
designator X?, comment ISA SLOT
footprint ISA-16
part A pins: A2 P
part B pins: A3 P
part C pins: A4 P
part D pins: A5 P
part E pins: A6 P
part F pins: A7 P
part G pins: A8 P
part H pins: A9 P
part I pins: A10 P
part J pins: A11 P
part K pins: A12 P
part L pins: A13 P
part M pins: A14 P
part N pins: A15 P
part O pins: A16 P
part P pins: A17 P
part Q pins: A18 P
part R pins: A19 P
part S pins: A20 P
part T pins: A21 P
part U pins: A22 P
part V pins: A23 P
part W pins: A24 P
part X pins: A25 P
part Y pins: A26 P
part Z pins: A27 P
part 27 pins: A28 P
part 28 pins: A29 P
part 29 pins: A30 P
part 30 pins: A31 P
part 31 pins: B2 P
part 32 pins: B3 P
part 33 pins: B4 P
part 34 pins: B5 P
part 35 pins: B6 P
part 36 pins: B7 P
part 37 pins: B8 P
part 38 pins: B9 P
part 39 pins: B10 P
part 40 pins: B11 P
part 41 pins: B12 P
part 42 pins: B13 P
part 43 pins: B14 P
part 44 pins: B15 P
part 45 pins: B16 P
part 46 pins: B17 P
part 47 pins: B18 P
part 48 pins: B19 P
part 49 pins: B20 P
part 50 pins: B21 P
part 51 pins: B22 P
part 52 pins: B23 P
part 53 pins: B24 P
part 54 pins: B25 P
part 55 pins: B26 P
part 56 pins: B27 P
part 57 pins: B28 P
part 58 pins: B29 P
part 59 pins: B30 P
part 60 pins: B31 P
part 61 pins: C2 P
part 62 pins: C3 P
part 63 pins: C4 P
part 64 pins: C5 P
part 65 pins: C6 P
part 66 pins: C7 P
part 67 pins: C8 P
part 68 pins: C9 P
part 69 pins: C10 P
part 70 pins: C11 P
part 71 pins: C12 P
part 72 pins: C13 P
part 73 pins: C14 P
part 74 pins: C15 P
part 75 pins: C16 P
part 76 pins: C17 P
part 77 pins: C18 P
part 78 pins: D2 P
part 79 pins: D3 P
part 80 pins: D4 P
part 81 pins: D5 P
part 82 pins: D6 P
part 83 pins: D7 P
part 84 pins: D8 P
part 85 pins: D9 P
part 86 pins: D10 P
part 87 pins: D11 P
part 88 pins: D12 P
part 89 pins: D13 P
part 90 pins: D14 P
part 91 pins: D15 P
part 92 pins: D16 P
part 93 pins: D17 P
part 94 pins: D18 P
part 95 pins: A1 P
part 96 pins: B1 P
part 97 pins: C1 P
part 98 pins: D1 P

## PCI2-SLOT
designator ST?, comment PCI BOARD SHORT
footprint PCI_BRD
part A pins: C1 -12V (power), C2 TCK, C4 TDO, C7 /INTB, C8 /INTD, C9 /PRSNT1, C11 /PRSNT2, C16 CLK, C18 /REQ, C20 AD31, C21 AD29, C23 AD27, C24 AD25, C26 C/BE3, C27 AD23, C29 AD21, C30 AD19, C32 AD17, C33 C/BE2, C35 /IRDY, C37 /DEVSEL, C39 /LOCK, C40 /PERR, C42 /SERR, C44 C/BE1, C45 AD14, C47 AD12, C48 AD10, C52 AD8, C53 AD7, C55 AD5, C56 AD3, C58 AD1, C60 /ACK64, S1 /TRST, S2 +12V (power), S3 TMS, S4 TDI, S6 /INTA, S7 /INTC, S15 /RST, S17 /GNT, S20 AD30, S22 AD28, S23 AD26, S25 AD24, S26 IDSEL, S28 AD22, S29 AD20, S31 AD18, S32 AD16, S34 /FRAME, S36 /TRDY, S38 /STOP, S40 SDONE, S41 /SBO, S43 PAR, S44 AD15, S46 AD13, S47 AD11, S49 AD9, S52 C/BE0, S54 AD6, S55 AD4, S57 AD2, S58 AD0, S60 /REQ64
part B pins: C3 GND@19 (power), C5 +5V@12 (power), C6 +5V@11 (power), C10 NC3, C12 GND@18 (power), C13 GND@17 (power), C14 NC4, C15 GND@16 (power), C17 GND@15 (power), C19 +5V@10 (power), C22 GND@14 (power), C25 +3,3V@11 (power), C28 GND@13 (power), C31 +3,3V@10 (power), C34 GND@12 (power), C36 +3,3V@9 (power), C38 GND@11 (power), C41 +3,3V@8 (power), C43 +3,3V@7 (power), C46 GND@10 (power), C49 GND@9 (power), C54 +3,3V@6 (power), C57 GND@8 (power), C59 +5V@9 (power), C61 +5V@8 (power), C62 +5V@7 (power), S5 +5V (power), S8 +5V@1 (power), S9 NC0, S10 +5V@2 (power), S11 NC5, S12 GND (power), S13 GND@1 (power), S14 NC1, S16 +5V@3 (power), S18 GND@2 (power), S19 NC2, S21 +3,3V (power), S24 GND@3 (power), S27 +3,3V@1 (power), S30 GND@4 (power), S33 +3,3V@2 (power), S35 GND@21, S37 GND@20 (power), S39 +3,3V@3, S42 GND@5 (power), S45 +3,3V@4 (power), S48 GND@6 (power), S53 +3,3V@5 (power), S56 GND@7 (power), S59 +5V@4 (power), S61 +5V@5 (power), S62 +5V@6 (power)

## PCI-E-164SLOT
designator X?, comment Copy from  con-pci_express(pci-e).lbr uploaded Mon Jul 2 10:15:25 2007   Library for PCI-Express x16 (PCI-E) connector. Includes connector and card edge pattern. Uploaded by JF Duval <jfduval@aqra.ca> from AQRA.ca
footprint PCI-E_SLOT
pins: A1, A2, A3, A4, A5, A6, A7, A8, A9, A10, A11, A12, A13, A14, A15, A16, A17, A18, A19, A20, A21, A22, A23, A24, A25, A26, A27, A28, A29, A30, A31, A32, A33, A34, A35, A36, A37, A38, A39, A40, A41, A42, A43, A44, A45, A46, A47, A48, A49, A50, A51, A52, A53, A54, A55, A56, A57, A58, A59, A60, A61, A62, A63, A64, A65, A66, A67, A68, A69, A70, A71, A72, A73, A74, A75, A76, A77, A78, A79, A80, A81, A82, B1, B2, B3, B4, B5, B6, B7, B8, B9, B10, B11, B12, B13, B14, B15, B16, B17, B18, B19, B20, B21, B22, B23, B24, B25, B26, B27, B28, B29, B30, B31, B32, B33, B34, B35, B36, B37, B38, B39, B40, B41, B42, B43, B44, B45, B46, B47, B48, B49, B50, B51, B52, B53, B54, B55, B56, B57, B58, B59, B60, B61, B62, B63, B64, B65, B66, B67, B68, B69, B70, B71, B72, B73, B74, B75, B76, B77, B78, B79, B80, B81, B82

## PCI-E-164SOCKET
designator X?, comment Copy from  con-pci_express(pci-e).lbr uploaded Mon Jul 2 10:15:25 2007   Library for PCI-Express x16 (PCI-E) connector. Includes connector and card edge pattern. Uploaded by JF Duval <jfduval@aqra.ca> from AQRA.ca
footprint PCI-E-164
pins: A1, A2, A3, A4, A5, A6, A7, A8, A9, A10, A11, A12, A13, A14, A15, A16, A17, A18, A19, A20, A21, A22, A23, A24, A25, A26, A27, A28, A29, A30, A31, A32, A33, A34, A35, A36, A37, A38, A39, A40, A41, A42, A43, A44, A45, A46, A47, A48, A49, A50, A51, A52, A53, A54, A55, A56, A57, A58, A59, A60, A61, A62, A63, A64, A65, A66, A67, A68, A69, A70, A71, A72, A73, A74, A75, A76, A77, A78, A79, A80, A81, A82, B1, B2, B3, B4, B5, B6, B7, B8, B9, B10, B11, B12, B13, B14, B15, B16, B17, B18, B19, B20, B21, B22, B23, B24, B25, B26, B27, B28, B29, B30, B31, B32, B33, B34, B35, B36, B37, B38, B39, B40, B41, B42, B43, B44, B45, B46, B47, B48, B49, B50, B51, B52, B53, B54, B55, B56, B57, B58, B59, B60, B61, B62, B63, B64, B65, B66, B67, B68, B69, B70, B71, B72, B73, B74, B75, B76, B77, B78, B79, B80, B81, B82

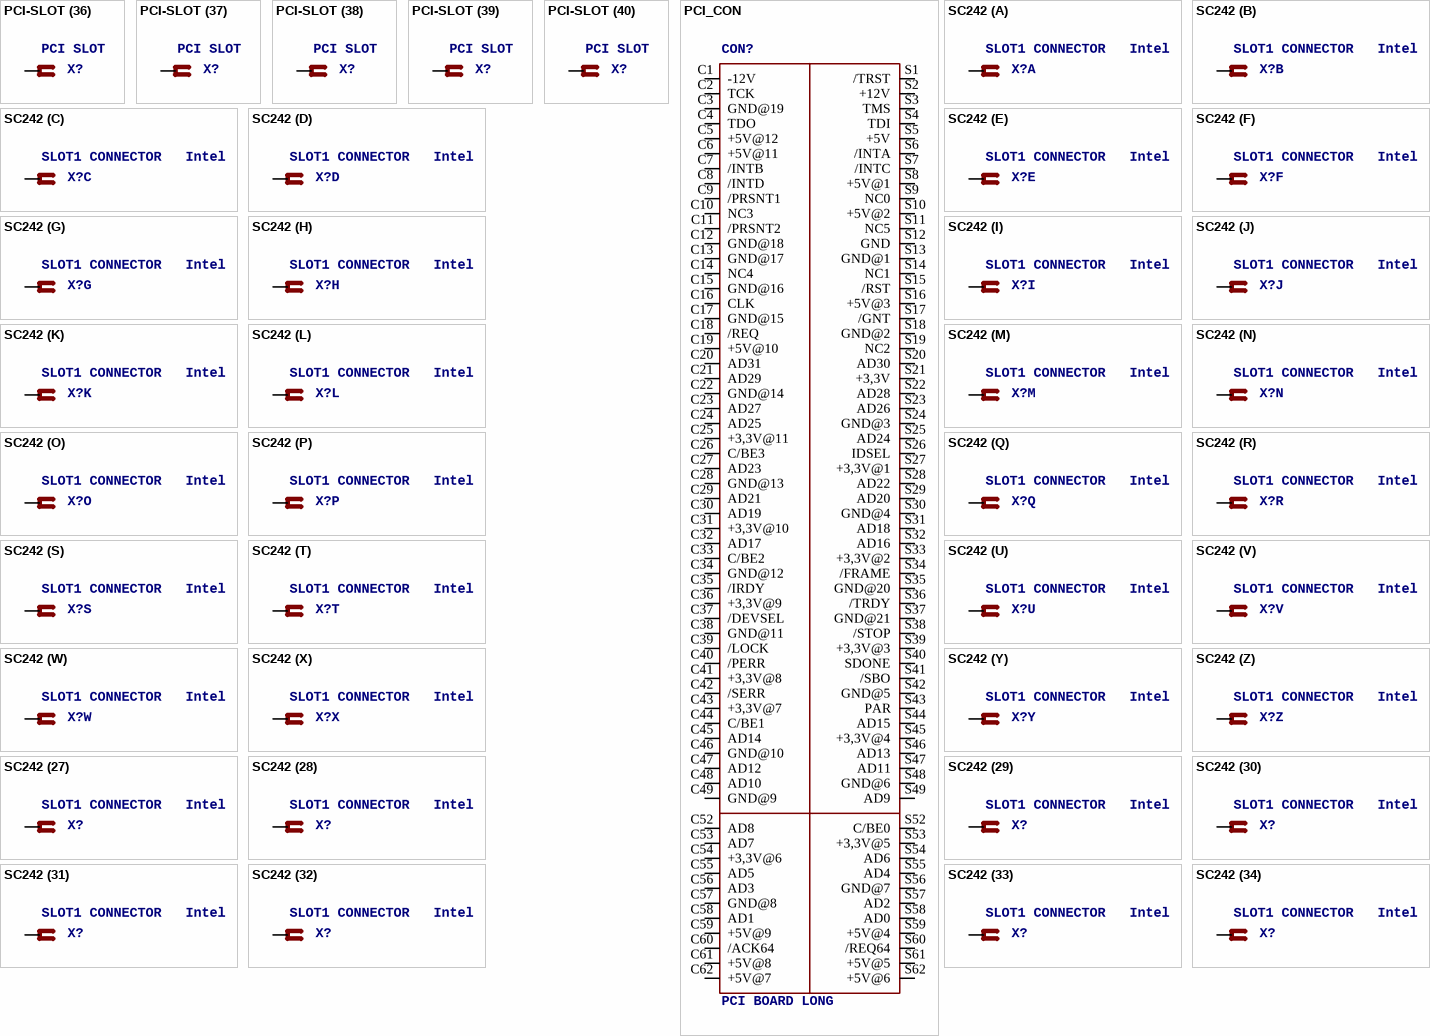
[diagram p10: symbols PCI-SLOT to SC242]

## PCI-SLOT
designator X?, comment PCI SLOT
footprint CON-PCI
part A pins: A1 P
part B pins: A2 P
part C pins: A3 P
part D pins: A4 P
part E pins: A5 P
part F pins: A6 P
part G pins: A7 P
part H pins: A8 P
part I pins: A9 P
part J pins: A10 P
part K pins: A11 P
part L pins: A12 P
part M pins: A13 P
part N pins: A14 P
part O pins: A15 P
part P pins: A16 P
part Q pins: A17 P
part R pins: A18 P
part S pins: A19 P
part T pins: A20 P
part U pins: A21 P
part V pins: A22 P
part W pins: A23 P
part X pins: A24 P
part Y pins: A25 P
part Z pins: A26 P
part 27 pins: A27 P
part 28 pins: A28 P
part 29 pins: A29 P
part 30 pins: A30 P
part 31 pins: A31 P
part 32 pins: A32 P
part 33 pins: A33 P
part 34 pins: A34 P
part 35 pins: A35 P
part 36 pins: A36 P
part 37 pins: A37 P
part 38 pins: A38 P
part 39 pins: A39 P
part 40 pins: A40 P
part 41 pins: A41 P
part 42 pins: A42 P
part 43 pins: A43 P
part 44 pins: A44 P
part 45 pins: A45 P
part 46 pins: A46 P
part 47 pins: A47 P
part 48 pins: A48 P
part 49 pins: A49 P
part 50 pins: A52 P
part 51 pins: A53 P
part 52 pins: A54 P
part 53 pins: A55 P
part 54 pins: A56 P
part 55 pins: A57 P
part 56 pins: A58 P
part 57 pins: A59 P
part 58 pins: A60 P
part 59 pins: A61 P
part 60 pins: A62 P
part 61 pins: B1 P
part 62 pins: B2 P
part 63 pins: B3 P
part 64 pins: B4 P
part 65 pins: B5 P
part 66 pins: B6 P
part 67 pins: B7 P
part 68 pins: B8 P
part 69 pins: B9 P
part 70 pins: B10 P
part 71 pins: B11 P
part 72 pins: B12 P
part 73 pins: B13 P
part 74 pins: B14 P
part 75 pins: B15 P
part 76 pins: B16 P
part 77 pins: B17 P
part 78 pins: B18 P
part 79 pins: B19 P
part 80 pins: B20 P
part 81 pins: B21 P
part 82 pins: B22 P
part 83 pins: B23 P
part 84 pins: B24 P
part 85 pins: B25 P
part 86 pins: B26 P
part 87 pins: B27 P
part 88 pins: B28 P
part 89 pins: B29 P
part 90 pins: B30 P
part 91 pins: B31 P
part 92 pins: B32 P
part 93 pins: B33 P
part 94 pins: B34 P
part 95 pins: B35 P
part 96 pins: B36 P
part 97 pins: B37 P
part 98 pins: B38 P
part 99 pins: B39 P
part 100 pins: B40 P
part 101 pins: B41 P
part 102 pins: B42 P
part 103 pins: B43 P
part 104 pins: B44 P
part 105 pins: B45 P
part 106 pins: B46 P
part 107 pins: B47 P
part 108 pins: B48 P
part 109 pins: B49 P
part 110 pins: B52 P
part 111 pins: B53 P
part 112 pins: B54 P
part 113 pins: B55 P
part 114 pins: B56 P
part 115 pins: B57 P
part 116 pins: B58 P
part 117 pins: B59 P
part 118 pins: B60 P
part 119 pins: B61 P
part 120 pins: B62 P

## PCI_CON
designator CON?, comment PCI BOARD LONG
footprint PCI_BRDL
pins: C1 -12V (power), C2 TCK, C3 GND@19 (power), C4 TDO, C5 +5V@12 (power), C6 +5V@11 (power), C7 /INTB, C8 /INTD, C9 /PRSNT1, C10 NC3, C11 /PRSNT2, C12 GND@18, C13 GND@17 (power), C14 NC4, C15 GND@16 (power), C16 CLK, C17 GND@15 (power), C18 /REQ, C19 +5V@10 (power), C20 AD31, C21 AD29, C22 GND@14 (power), C23 AD27, C24 AD25, C25 +3,3V@11 (power), C26 C/BE3, C27 AD23, C28 GND@13 (power), C29 AD21, C30 AD19, C31 +3,3V@10 (power), C32 AD17, C33 C/BE2, C34 GND@12 (power), C35 /IRDY, C36 +3,3V@9 (power), C37 /DEVSEL, C38 GND@11 (power), C39 /LOCK, C40 /PERR, C41 +3,3V@8 (power), C42 /SERR, C43 +3,3V@7 (power), C44 C/BE1, C45 AD14, C46 GND@10 (power), C47 AD12, C48 AD10, C49 GND@9 (power), C52 AD8, C53 AD7, C54 +3,3V@6 (power), C55 AD5, C56 AD3, C57 GND@8 (power), C58 AD1, C59 +5V@9 (power), C60 /ACK64, C61 +5V@8 (power), C62 +5V@7 (power), S1 /TRST, S2 +12V (power), S3 TMS, S4 TDI, S5 +5V (power), S6 /INTA, S7 /INTC, S8 +5V@1 (power), S9 NC0, S10 +5V@2 (power), S11 NC5, S12 GND (power), S13 GND@1 (power), S14 NC1, S15 /RST, S16 +5V@3 (power), S17 /GNT, S18 GND@2 (power), S19 NC2, S20 AD30, S21 +3,3V (power), S22 AD28, S23 AD26, S24 GND@3 (power), S25 AD24, S26 IDSEL, S27 +3,3V@1 (power), S28 AD22, S29 AD20, S30 GND@4 (power), S31 AD18, S32 AD16, S33 +3,3V@2 (power), S34 /FRAME, S35 GND@20 (power), S36 /TRDY, S37 GND@21, S38 /STOP, S39 +3,3V@3, S40 SDONE, S41 /SBO, S42 GND@5 (power), S43 PAR, S44 AD15, S45 +3,3V@4 (power), S46 AD13, S47 AD11, S48 GND@6 (power), S49 AD9, S52 C/BE0, S53 +3,3V@5 (power), S54 AD6, S55 AD4, S56 GND@7 (power), S57 AD2, S58 AD0, S59 +5V@4 (power), S60 /REQ64, S61 +5V@5 (power), S62 +5V@6 (power)

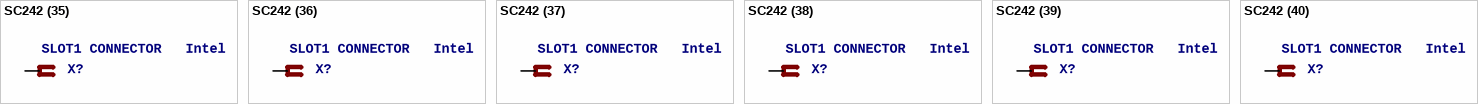
[diagram p11: symbol SC242]

## SC242
designator X?, comment SLOT1 CONNECTOR   Intel
footprint SC242CON
part A pins: A1 P
part B pins: A2 P
part C pins: A3 P
part D pins: A4 P
part E pins: A5 P
part F pins: A6 P
part G pins: A7 P
part H pins: A8 P
part I pins: A9 P
part J pins: A10 P
part K pins: A11 P
part L pins: A12 P
part M pins: A13 P
part N pins: A14 P
part O pins: A15 P
part P pins: A16 P
part Q pins: A17 P
part R pins: A18 P
part S pins: A19 P
part T pins: A20 P
part U pins: A21 P
part V pins: A22 P
part W pins: A23 P
part X pins: A24 P
part Y pins: A25 P
part Z pins: A26 P
part 27 pins: A27 P
part 28 pins: A28 P
part 29 pins: A29 P
part 30 pins: A30 P
part 31 pins: A31 P
part 32 pins: A32 P
part 33 pins: A33 P
part 34 pins: A34 P
part 35 pins: A35 P
part 36 pins: A36 P
part 37 pins: A37 P
part 38 pins: A38 P
part 39 pins: A39 P
part 40 pins: A40 P
part 41 pins: A41 P
part 42 pins: A42 P
part 43 pins: A43 P
part 44 pins: A44 P
part 45 pins: A45 P
part 46 pins: A46 P
part 47 pins: A47 P
part 48 pins: A48 P
part 49 pins: A49 P
part 50 pins: A50 P
part 51 pins: A51 P
part 52 pins: A52 P
part 53 pins: A53 P
part 54 pins: A54 P
part 55 pins: A55 P
part 56 pins: A56 P
part 57 pins: A57 P
part 58 pins: A58 P
part 59 pins: A59 P
part 60 pins: A60 P
part 61 pins: A61 P
part 62 pins: A62 P
part 63 pins: A63 P
part 64 pins: A64 P
part 65 pins: A65 P
part 66 pins: A66 P
part 67 pins: A67 P
part 68 pins: A68 P
part 69 pins: A69 P
part 70 pins: A70 P
part 71 pins: A71 P
part 72 pins: A72 P
part 73 pins: A73 P
part 74 pins: A74 P
part 75 pins: A75 P
part 76 pins: A76 P
part 77 pins: A77 P
part 78 pins: A78 P
part 79 pins: A79 P
part 80 pins: A80 P
part 81 pins: A81 P
part 82 pins: A82 P
part 83 pins: A83 P
part 84 pins: A84 P
part 85 pins: A85 P
part 86 pins: A86 P
part 87 pins: A87 P
part 88 pins: A88 P
part 89 pins: A89 P
part 90 pins: A90 P
part 91 pins: A91 P
part 92 pins: A92 P
part 93 pins: A93 P
part 94 pins: A94 P
part 95 pins: A95 P
part 96 pins: A96 P
part 97 pins: A97 P
part 98 pins: A98 P
part 99 pins: A99 P
part 100 pins: A100 P
part 101 pins: A101 P
part 102 pins: A102 P
part 103 pins: A103 P
part 104 pins: A104 P
part 105 pins: A105 P
part 106 pins: A106 P
part 107 pins: A107 P
part 108 pins: A108 P
part 109 pins: A109 P
part 110 pins: A110 P
part 111 pins: A111 P
part 112 pins: A112 P
part 113 pins: A113 P
part 114 pins: A114 P
part 115 pins: A115 P
part 116 pins: A116 P
part 117 pins: A117 P
part 118 pins: A118 P
part 119 pins: A119 P
part 120 pins: A120 P
part 121 pins: A121 P
part 122 pins: B1 P
part 123 pins: B2 P
part 124 pins: B3 P
part 125 pins: B4 P
part 126 pins: B5 P
part 127 pins: B6 P
part 128 pins: B7 P
part 129 pins: B8 P
part 130 pins: B9 P
part 131 pins: B10 P
part 132 pins: B11 P
part 133 pins: B12 P
part 134 pins: B13 P
part 135 pins: B14 P
part 136 pins: B15 P
part 137 pins: B16 P
part 138 pins: B17 P
part 139 pins: B18 P
part 140 pins: B19 P
part 141 pins: B20 P
part 142 pins: B21 P
part 143 pins: B22 P
part 144 pins: B23 P
part 145 pins: B24 P
part 146 pins: B25 P
part 147 pins: B26 P
part 148 pins: B27 P
part 149 pins: B28 P
part 150 pins: B29 P
part 151 pins: B30 P
part 152 pins: B31 P
part 153 pins: B32 P
part 154 pins: B33 P
part 155 pins: B34 P
part 156 pins: B35 P
part 157 pins: B36 P
part 158 pins: B37 P
part 159 pins: B38 P
part 160 pins: B39 P
part 161 pins: B40 P
part 162 pins: B41 P
part 163 pins: B42 P
part 164 pins: B43 P
part 165 pins: B44 P
part 166 pins: B45 P
part 167 pins: B46 P
part 168 pins: B47 P
part 169 pins: B48 P
part 170 pins: B49 P
part 171 pins: B50 P
part 172 pins: B51 P
part 173 pins: B52 P
part 174 pins: B53 P
part 175 pins: B54 P
part 176 pins: B55 P
part 177 pins: B56 P
part 178 pins: B57 P
part 179 pins: B58 P
part 180 pins: B59 P
part 181 pins: B60 P
part 182 pins: B61 P
part 183 pins: B62 P
part 184 pins: B63 P
part 185 pins: B64 P
part 186 pins: B65 P
part 187 pins: B66 P
part 188 pins: B67 P
part 189 pins: B68 P
part 190 pins: B69 P
part 191 pins: B70 P
part 192 pins: B71 P
part 193 pins: B72 P
part 194 pins: B73 P
part 195 pins: B74 P
part 196 pins: B75 P
part 197 pins: B76 P
part 198 pins: B77 P
part 199 pins: B78 P
part 200 pins: B79 P
part 201 pins: B80 P
part 202 pins: B81 P
part 203 pins: B82 P
part 204 pins: B83 P
part 205 pins: B84 P
part 206 pins: B85 P
part 207 pins: B86 P
part 208 pins: B87 P
part 209 pins: B88 P
part 210 pins: B89 P
part 211 pins: B90 P
part 212 pins: B91 P
part 213 pins: B92 P
part 214 pins: B93 P
part 215 pins: B94 P
part 216 pins: B95 P
part 217 pins: B96 P
part 218 pins: B97 P
part 219 pins: B98 P
part 220 pins: B99 P
part 221 pins: B100 P
part 222 pins: B101 P
part 223 pins: B102 P
part 224 pins: B103 P
part 225 pins: B104 P
part 226 pins: B105 P
part 227 pins: B106 P
part 228 pins: B107 P
part 229 pins: B108 P
part 230 pins: B109 P
part 231 pins: B110 P
part 232 pins: B111 P
part 233 pins: B112 P
part 234 pins: B113 P
part 235 pins: B114 P
part 236 pins: B115 P
part 237 pins: B116 P
part 238 pins: B117 P
part 239 pins: B118 P
part 240 pins: B119 P
part 241 pins: B120 P
part 242 pins: B121 P